# EAGLE library part E18-MS1 (library e18-ms1-ipx-pcb)
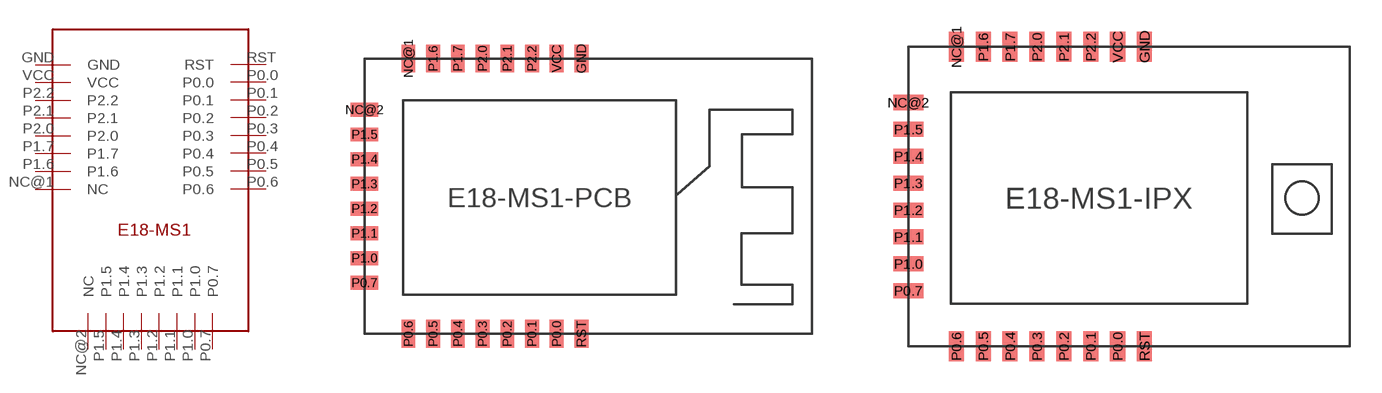
[diagram p0: symbol with the pads of E18-MS1-PCB; footprints E18-MS1-PCB, E18-MS1-IPX]

Designator prefix -

## E18-MS1PCB  [E18-MS1-PCB]
GND  GND
NC@1  NC
NC@2  NC
P0.0  P0.0
P0.1  P0.1
P0.2  P0.2
P0.3  P0.3
P0.4  P0.4
P0.5  P0.5
P0.6  P0.6
P0.7  P0.7
P1.0  P1.0
P1.1  P1.1
P1.2  P1.2
P1.3  P1.3
P1.4  P1.4
P1.5  P1.5
P1.6  P1.6
P1.7  P1.7
P2.0  P2.0
P2.1  P2.1
P2.2  P2.2
RST  RST
VCC  VCC

## E18-MS1IPX  [E18-MS1-IPX]
Pads as for E18-MS1-PCB

## Footprint E18-MS1-PCB (pad centres in mm)
smd 0.711 x 1.422: GND 11.15,14.14; NC@1 2.26,14.14; P0.0 9.88,0; P0.1 8.61,0; P0.2 7.34,0; P0.3 6.07,0; P0.4 4.8,0; P0.5 3.53,0; P0.6 2.26,0; P1.6 3.53,14.14; P1.7 4.8,14.14; P2.0 6.07,14.14; P2.1 7.34,14.14; P2.2 8.61,14.14; RST 11.15,0; VCC 9.88,14.14
smd 1.422 x 0.711: NC@2 0,11.51; P0.7 0,2.62; P1.0 0,3.89; P1.1 0,5.16; P1.2 0,6.43; P1.3 0,7.7; P1.4 0,8.97; P1.5 0,10.24

## Footprint E18-MS1-IPX (pad centres in mm)
smd 0.711 x 1.422: GND 11.15,14.14; NC@1 2.26,14.14; P0.0 9.88,0; P0.1 8.61,0; P0.2 7.34,0; P0.3 6.07,0; P0.4 4.8,0; P0.5 3.53,0; P0.6 2.26,0; P1.6 3.53,14.14; P1.7 4.8,14.14; P2.0 6.07,14.14; P2.1 7.34,14.14; P2.2 8.61,14.14; RST 11.15,0; VCC 9.88,14.14
smd 1.422 x 0.711: NC@2 0,11.51; P0.7 0,2.62; P1.0 0,3.89; P1.1 0,5.16; P1.2 0,6.43; P1.3 0,7.7; P1.4 0,8.97; P1.5 0,10.24